# Altium schematic symbol library SCH - CONNECTORS - TE 4-794677-8.Schlib: 1 symbol
Pins are listed as number, name and electrical type; pins without a type are passive.

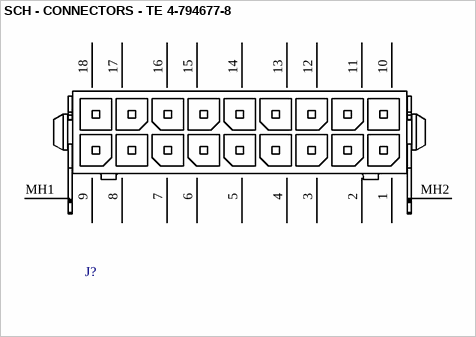
[diagram p0: symbol SCH - CONNECTORS - TE 4-794677-8]

## SCH - CONNECTORS - TE 4-794677-8
designator J?
footprint 4-794677-8 (18Pos Micro MNL Assy R/A, THRU)
pins: 1, 2, 3, 4, 5, 6, 7, 8, 9, 10, 11, 12, 13, 14, 15, 16, 17, 18, MH1, MH2